# EAGLE library part UM6K31N (library PassTransistor)
UM6K31N: Dual Channel NMOS Specifications: Manufacturer: Rohm Semiconductor FET Type: 2 N-Channel (Dual) Vdss: 60V Id (Max): 250 mA Rds On (Max): 2.4 Ohm @ 250mA, 10V Vgs(th) (Max) @ Id: 2.3V @ 1mA Package: 6-TSSOP, SC-88, SOT-363 Datasheet: UM6K31N <https://www.rohm.com/datasheet/UM6K31N/um6k31n-e> Digi-Key Part #: UM6K31NTNCT-ND <https://www.digikey.com/product-detail/en/rohm-semiconductor/UM6K31NTN/UM6K31NTNCT-ND/4571462>
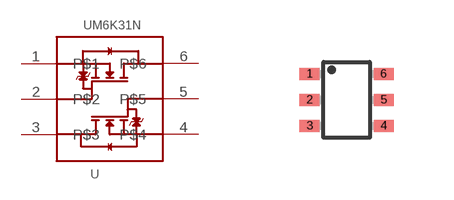
[diagram p1: symbol with the pads of UMT6; footprint UMT6]

Designator prefix U

## UM6K31N  [UMT6]
1  P$1
2  P$2
3  P$3
4  P$4
5  P$5
6  P$6

## Footprint UMT6 (pad centres in mm)
UMT6 Package EIAJ: SC-88 Source: http://www.rohm.com/products/databook/tr/pdf/umx1n.pdf
smd 0.5 x 0.3: 1 -0.925,0.65; 2 -0.925,0; 3 -0.925,-0.65; 4 0.925,-0.65; 5 0.925,0; 6 0.925,0.65